# EAGLE library part MIC2876 (library thanics_robotics)
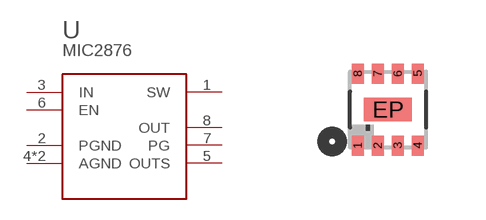
[diagram p43: symbol with the pads of UDFN8; footprint UDFN8]

Designator prefix U

## MIC2876UDFN-8  [UDFN8]
1  SW
2  PGND
3  IN
4  AGND
5  OUTS
6  EN
7  PG
8  OUT
EP  AGND

## Footprint UDFN8 (pad centres in mm)
uDFN 8 Source: http://datasheets.maxim-ic.com/en/ds/MAX4906-MAX4907F.pdf
smd 0.3 x 0.5: 1 -0.75,-0.9; 2 -0.25,-0.9; 3 0.25,-0.9; 4 0.75,-0.9; 5 0.75,0.9; 6 0.25,0.9; 7 -0.25,0.9; 8 -0.75,0.9
smd 1.2 x 0.6: EP 0,0